# EAGLE library part FTDI232-BO (library pinconn)
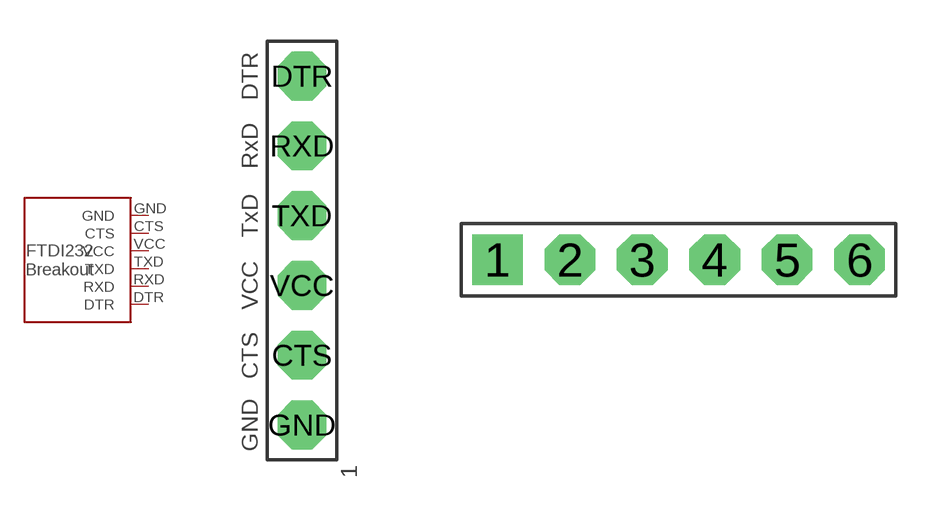
[diagram p0: symbol with the pads of FTDI232-BO; footprints FTDI232-BO, CONN-6P]

Designator prefix J

## FTDI232-BO  [FTDI232-BO]
CTS  CTS
DTR  DTR
GND  GND
RXD  RXD
TXD  TXD
VCC  VCC

## FTDI232-BO-6P  [CONN-6P]
1  GND
2  CTS
3  VCC
4  TXD
5  RXD
6  DTR

## FTDI232-BO-R  [FTDI232-BO-L]
Pads as for FTDI232-BO

## Footprint FTDI232-BO (pad centres in mm)
drill 0.9 pad 1.778 octagon: CTS 0,-3.81; DTR 0,6.35; GND 0,-6.35; RXD 0,3.81; TXD 0,1.27; VCC 0,-1.27

## Footprint CONN-6P (pad centres in mm)
drill 0.9 pad 1.778 square: 1 -6.35,0
drill 0.9 pad 1.778 octagon: 2 -3.81,0; 3 -1.27,0; 4 1.27,0; 5 3.81,0; 6 6.35,0

## Footprint FTDI232-BO-L (pad centres in mm)
drill 0.9 pad 1.778 octagon: CTS 0,3.81; DTR 0,-6.35; GND 0,6.35; RXD 0,-3.81; TXD 0,-1.27; VCC 0,1.27